# Altium schematic symbol library IC.SchLib: 26 symbols
Pins are listed as number, name and electrical type; pins without a type are passive.

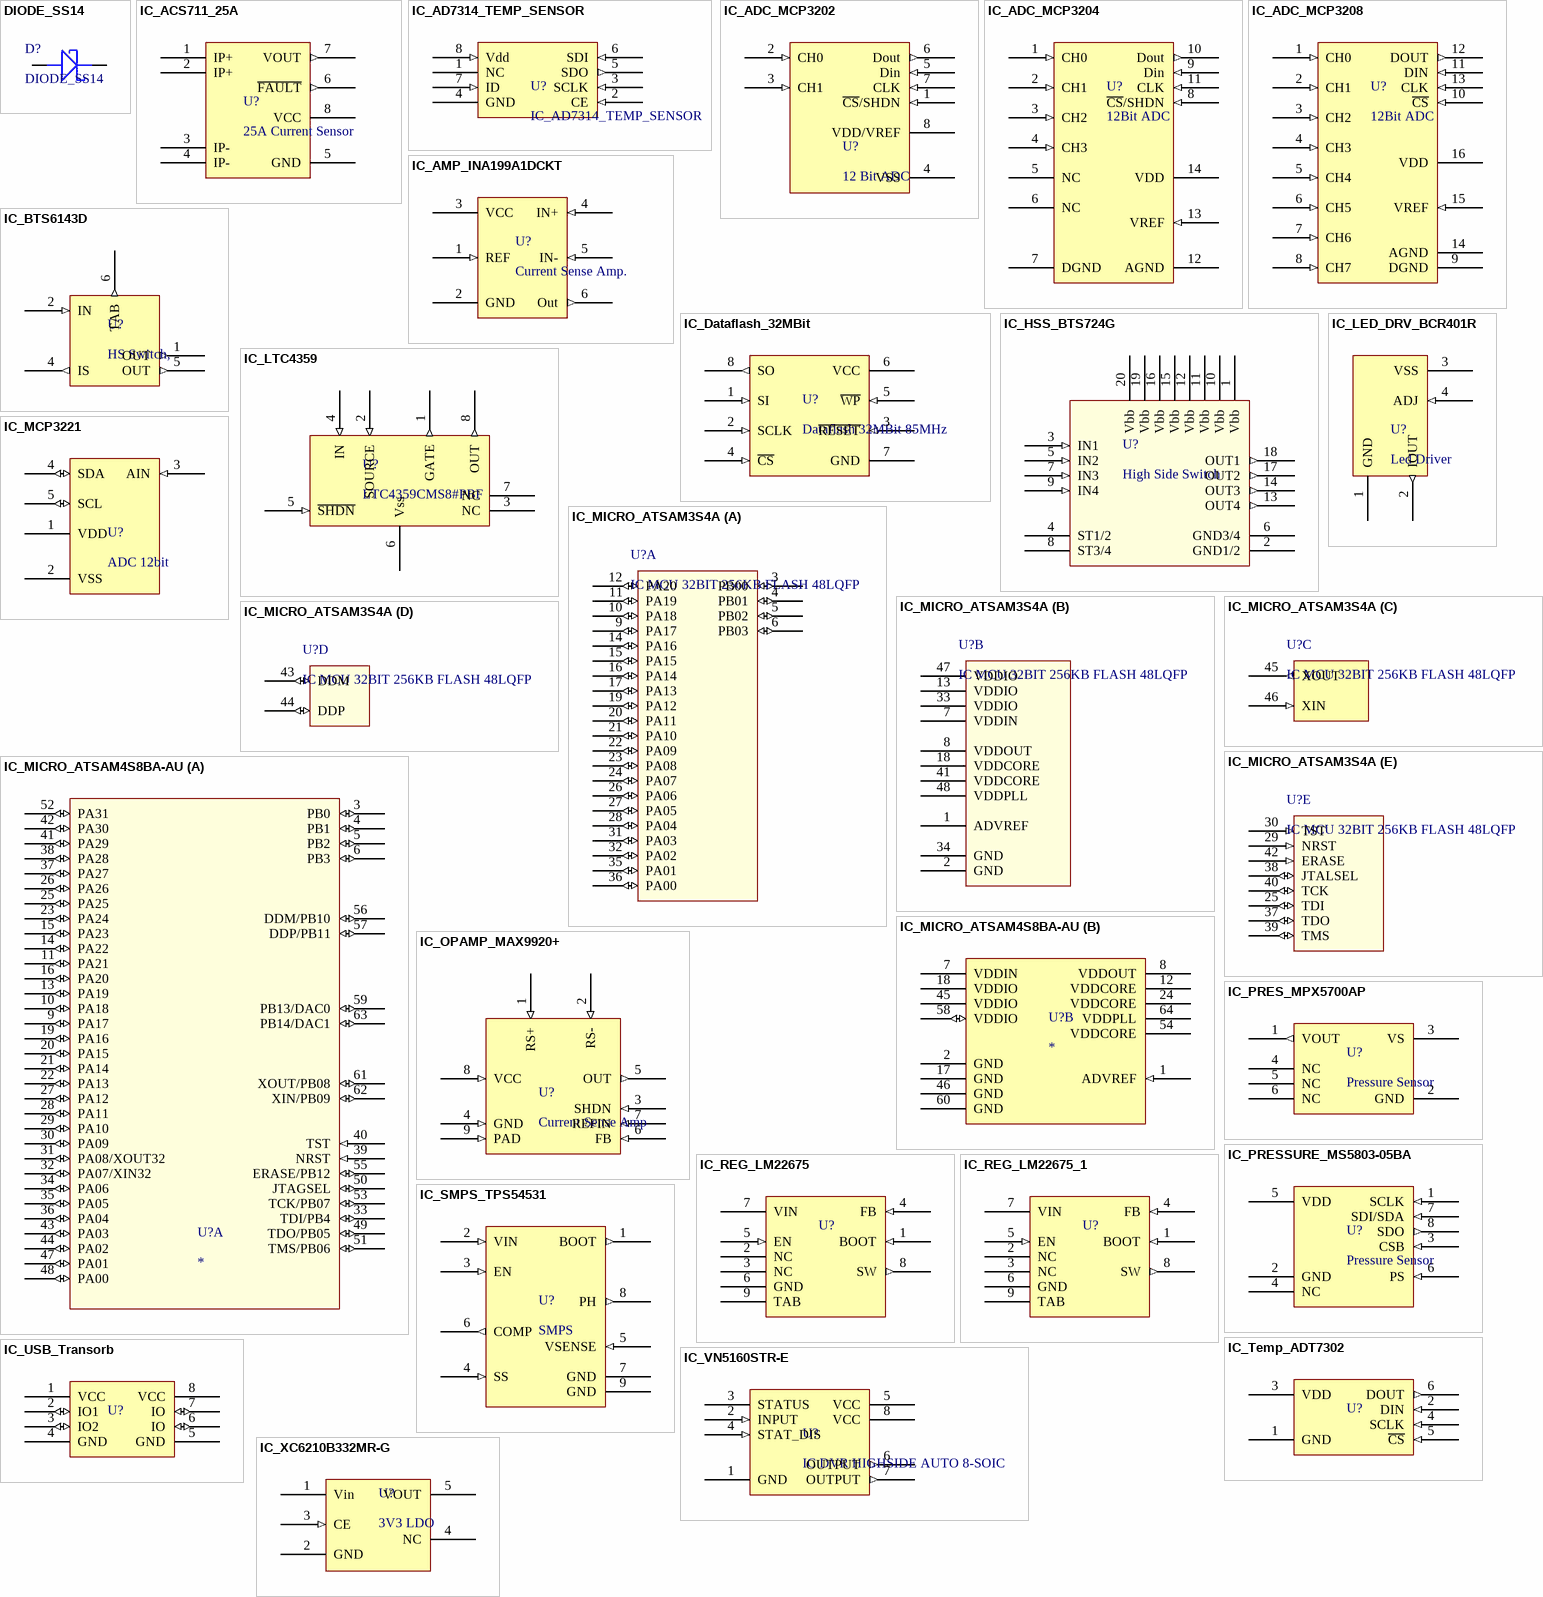
[diagram p0: symbols DIODE_SS14 to IC_XC6210B332MR-G]

## DIODE_SS14
designator D?
Schottky Diode, 1A, 40V SS14; Manufacturer: Fairchild; Manufacturer P/N: SS14
footprint DO-214AC
pins: A, K

## IC_ACS711_25A
designator U?, comment 25A Current Sensor
SENSOR CURRENT HALL 25A AC/DC; Manufacturer: Allegro MicroSystems, LLC; Manufacturer P/N: ACS711ELCTR-25AB-T
footprint SO-8
pins: 1 IP+ (power), 2 IP+ (power), 3 IP- (power), 4 IP- (power), 5 GND (power), 6 ~{FAULT} (out), 7 VOUT (out), 8 VCC (power)

## IC_AD7314_TEMP_SENSOR
designator U?
SENSOR TEMPERATURE SPI 8MSOP; Manufacturer P/N: AD7314ARMZ-REEL7; Manufacturer: Analog Devices Inc
footprint TSOP65P490X110-8M (TSOP, 8-Leads, Body 3.0x3.0mm (max), Pitch 0.65mm, IPC Low Density)
pins: 1 NC (hiz), 2 CE (in), 3 SCLK (in), 4 GND (power), 5 SDO (out), 6 SDI (in), 7 ID (in), 8 Vdd (in)

## IC_ADC_MCP3202
designator U?, comment 12 Bit ADC
MCP3202, 12 Bit, 2 CH ADC; Manufacturer: Microchip; Manufacturer P/N: MCP3202
footprint SO-8
pins: 1 ~{CS}/SHDN (in), 2 CH0 (in), 3 CH1 (in), 4 VSS (power), 5 Din (in), 6 Dout (out), 7 CLK (in), 8 VDD/VREF (power)

## IC_ADC_MCP3204
designator U?, comment 12Bit ADC
IC ADC 12BIT 2.7V 4CH SPI 14SOIC; Manufacturer: Microchip Technology; Manufacturer P/N: MCP3204-BI/SL
footprint SOIC127P600X175-14M (SOIC, 14-Leads, Body 9.9x3.9mm (max), Pitch 1.27mm, IPC Low Density)
pins: 1 CH0 (in), 2 CH1 (in), 3 CH2 (in), 4 CH3 (in), 5 NC (hiz), 6 NC (hiz), 7 DGND (power), 8 ~{CS}/SHDN (in), 9 Din (in), 10 Dout (out), 11 CLK (in), 12 AGND (power), 13 VREF (in), 14 VDD (power)

## IC_ADC_MCP3208
designator U?, comment 12Bit ADC
IC ADC 12BIT 2.7V 8CH SPI 16SOIC; Manufacturer: Microchip Technology; Manufacturer P/N: MCP3208-BI/SL
footprint SOIC127P600X175-16M (Footprint not found)
pins: 1 CH0 (in), 2 CH1 (in), 3 CH2 (in), 4 CH3 (in), 5 CH4 (in), 6 CH5 (in), 7 CH6 (in), 8 CH7 (in), 9 DGND (power), 10 ~{CS} (in), 11 DIN (in), 12 DOUT (out), 13 CLK (in), 14 AGND (power), 15 VREF (in), 16 VDD (power)

## IC_AMP_INA199A1DCKT
designator U?, comment Current Sense Amp.
Current Sense Amp, 50V/V; Manufacturer: ST Micro; Manufacturer P/N: INA199A1DCKT
footprint SOT65P210X110-6M (SOT23, 6-Leads, Body 2.2x2.4mm (max), Pitch 0.65mm, IPC Low Density)
pins: 1 REF (in), 2 GND (power), 3 VCC (power), 4 IN+ (in), 5 IN- (in), 6 Out (out)

## IC_BTS6143D
designator U?, comment HS Switch,
IC SWITCH HISIDE SMART TO252-5; Manufacturer: Infineon; Manufactuer P/N: BTS6143D
footprint TO140P1000X235-5M (Footprint not found)
pins: 1 OUT (out), 2 IN (in), 4 IS (out), 5 OUT (out), 6 TAB (out)

## IC_Dataflash_32MBit
designator U?, comment Dataflash 32MBit 85MHz
IC DATAFLASH 32MB 85MHZ 8SOIC; Manufacturer: Adesto Technologies; Manufacturer P/N: AT45DB321E-SHF-T
footprint SOIC127P800X216-8M (SOIC, 8-Leads, Body 5.4x5.2mm (max), Pitch 1.27mm, IPC Low Density)
pins: 1 SI (in), 2 SCLK (in), 3 ~{RESET} (in), 4 ~{CS} (in), 5 ~{WP} (in), 6 VCC (power), 7 GND (power), 8 SO (out)

## IC_HSS_BTS724G
designator U?, comment High Side Switch
IC HISIDE PWR SWITCH 4CH PDSO-20; Manufacturer: Infineon; Manufacturer P/N: BTS724GXUMA1
footprint SOIC127P1030X265-20M (SOIC, 20-Leads, Body 12.8x7.6mm (max), Pitch 1.27mm, IPC Low Density)
pins: 1 Vbb (power), 2 GND1/2 (power), 3 IN1 (in), 4 ST1/2 (oc), 5 IN2 (in), 6 GND3/4 (power), 7 IN3 (in), 8 ST3/4 (oc), 9 IN4 (in), 10 Vbb (power), 11 Vbb (power), 12 Vbb (power), 13 OUT4 (out), 14 OUT3 (out), 15 Vbb (power), 16 Vbb (power), 17 OUT2 (out), 18 OUT1 (out), 19 Vbb (power), 20 Vbb (power)

## IC_LED_DRV_BCR401R
designator U?, comment Led Driver
20-60mA Led Driver; Manufacturer: Infineon; Manufacturer P/N: BCR401R
footprint SOT192P237X110-4M (SOT143, 4-Leads, Body 3.0x2.6mm (max), Pitch 1.92mm, IPC Low Density)
pins: 1 GND (power), 2 IOUT (out), 3 VSS (power), 4 ADJ (in)

## IC_LTC4359
designator U?, comment LTC4359CMS8#PBF
Ideal Diode Controller; Manufacturer: Linear Technology; Manufacturer P/N: LTC4359CMS8#PBF
footprint TSOP65P490X110-8M (Footprint not found)
pins: 1 GATE (out), 2 SOURCE (in), 3 NC (hiz), 4 IN (in), 5 ~{SHDN} (in), 6 Vss (power), 7 NC (hiz), 8 OUT (out)

## IC_MCP3221
designator U?, comment ADC 12bit
ADC 12Bit MCP3221; Manufacturer: Microchip; Manufacturer P/N: MCP3221A5T-E/OT
footprint SOT95P280X145-5M (SOT23, 5-Leads, Body 3.1x3.0mm (max), Pitch 0.95mm, IPC Low Density)
pins: 1 VDD (power), 2 VSS (power), 3 AIN (in), 4 SDA (io), 5 SCL (io)

## IC_MICRO_ATSAM3S4A
designator U?, comment IC MCU 32BIT 256KB FLASH 48LQFP
Manufacturer: Atmel; Manufacturer P/N: ATSAM3S4AA-AUR
footprint TSQFP50P900X900X160-48M
part A pins: 3 PB00 (io), 4 PB01 (io), 5 PB02 (io), 6 PB03 (io), 9 PA17 (io), 10 PA18 (io), 11 PA19 (io), 12 PA20 (io), 14 PA16 (io), 15 PA15 (io), 16 PA14 (io), 17 PA13 (io), 19 PA12 (io), 20 PA11 (io), 21 PA10 (io), 22 PA09 (io), 23 PA08 (io), 24 PA07 (io), 26 PA06 (io), 27 PA05 (io), 28 PA04 (io), 31 PA03 (io), 32 PA02 (io), 35 PA01 (io), 36 PA00 (io)
part B pins: 1 ADVREF (power), 2 GND (power), 7 VDDIN (power), 8 VDDOUT (power), 13 VDDIO (power), 18 VDDCORE (power), 33 VDDIO (power), 34 GND (power), 41 VDDCORE (power), 47 VDDIO (power), 48 VDDPLL (power)
part C pins: 45 XOUT (out), 46 XIN (in)
part D pins: 43 DDM (io), 44 DDP (io)
part E pins: 25 TDI (io), 29 NRST (in), 30 TST (in), 37 TDO (io), 38 JTALSEL (io), 39 TMS (io), 40 TCK (io), 42 ERASE (in)

## IC_MICRO_ATSAM4S8BA-AU
designator U?
64 Pin, 512KB Flash, 128K SRAM; Manufacturer: Atmel; Manufacturer P/N: ATSAM4S8BA-AU
footprint TSQFP50P1200X1200X160-64M (TSQFP, 64-Leads, Body 12.0x12.0mm (max), Pitch 0.50mm, IPC Low Density)
part A pins: 3 PB0 (io), 4 PB1 (io), 5 PB2 (io), 6 PB3 (io), 9 PA17 (io), 10 PA18 (io), 11 PA21 (io), 13 PA19 (io), 14 PA22 (io), 15 PA23 (io), 16 PA20 (io), 19 PA16 (io), 20 PA15 (io), 21 PA14 (io), 22 PA13 (io), 23 PA24 (io), 25 PA25 (io), 26 PA26 (io), 27 PA12 (io), 28 PA11 (io), 29 PA10 (io), 30 PA09 (io), 31 PA08/XOUT32 (io), 32 PA07/XIN32 (io), 33 TDI/PB4 (io), 34 PA06 (io), 35 PA05 (io), 36 PA04 (io), 37 PA27 (io), 38 PA28 (io), 39 NRST (in), 40 TST (in), 41 PA29 (io), 42 PA30 (io), 43 PA03 (io), 44 PA02 (io), 47 PA01 (io), 48 PA00 (io), 49 TDO/PB05 (io), 50 JTAGSEL (io), 51 TMS/PB06 (io), 52 PA31 (io), 53 TCK/PB07 (io), 55 ERASE/PB12 (io), 56 DDM/PB10 (io), 57 DDP/PB11 (io), 59 PB13/DAC0 (io), 61 XOUT/PB08 (io), 62 XIN/PB09 (io), 63 PB14/DAC1 (io)
part B pins: 1 ADVREF (in), 2 GND (power), 7 VDDIN (power), 8 VDDOUT (power), 12 VDDCORE (power), 17 GND (power), 18 VDDIO (power), 24 VDDCORE (power), 45 VDDIO (power), 46 GND (power), 54 VDDCORE (power), 58 VDDIO (io), 60 GND (power), 64 VDDPLL (power)

## IC_OPAMP_MAX9920+
designator U?, comment Current Sense Amp
IC OPAMP CURR SENSE 230KHZ 8SOIC; Manufacturer: Maxim Intergrated; Manufacturer P/N: MAX9920ASA+
footprint SOIC127P600X168_HS-8M (SOIC, 8-Leads, Body 5.0x4.0mm (max), Pitch 1.27mm, IPC Low Density)
pins: 1 RS+ (in), 2 RS- (in), 3 SHDN (in), 4 GND (in), 5 OUT (out), 6 FB (in), 7 REFIN (in), 8 VCC (in), 9 PAD (in)

## IC_PRES_MPX5700AP
designator U?, comment Pressure Sensor
Pressure Sensor Absolutre 0-700kPa; Manufacturer P/N: MPX5700AP; Manufacturer: FREESCALE SEMICONDUCTOR
pins: 1 VOUT (out), 2 GND (power), 3 VS (power), 4 NC (power), 5 NC (power), 6 NC (power)

## IC_PRESSURE_MS5803-05BA
designator U?, comment Pressure Sensor
MINIATURE ALTIMETER MODULE; Manufacturer: TE Connectivity Measurement Specialties; Manufacturer P/N: MS580305BA01-00
footprint MS5803-05BA
pins: 1 SCLK (in), 2 GND (power), 3 CSB (in), 4 NC (hiz), 5 VDD (power), 6 PS (in), 7 SDI/SDA (in), 8 SDO (out)

## IC_REG_LM22675
designator U?, comment Buck Reg  (value not drawn)
IC REG BUCK 5V 1A 8SOPWRPAD; Manufacturer: Texas Instruments; Manufacturer P/N: LM22675MRE-5.0/NOPB
footprint PSOP-8
pins: 1 BOOT (in), 2 NC (hiz), 3 NC (hiz), 4 FB (in), 5 EN (in), 6 GND (power), 7 VIN (power), 8 SW (out), 9 TAB (power)

## IC_REG_LM22675_1
designator U?, comment Buck Reg  (value not drawn)
IC REG BUCK 5V 1A 8SOPWRPAD; Manufacturer: Texas Instruments; Manufacturer P/N: LM22675MRE-5.0/NOPB
footprint PSOP-8
pins: 1 BOOT (in), 2 NC (hiz), 3 NC (hiz), 4 FB (in), 5 EN (in), 6 GND (power), 7 VIN (power), 8 SW (out), 9 TAB (power)

## IC_SMPS_TPS54531
designator U?, comment SMPS
Manufacturer: TI; Manufacturer P/N: TPS54531DDA
footprint PSOP-8
pins: 1 BOOT (out), 2 VIN (in), 3 EN (in), 4 SS (in), 5 VSENSE (in), 6 COMP (out), 7 GND (power), 8 PH (out), 9 GND (power)

## IC_Temp_ADT7302
designator U?, comment SPI Temp Sensor  (value not drawn)
SENSOR TEMPERATURE SPI SOT23-6; Manufacturer: Analog Devices Inc; Manufacturer P/N: ADT7302ARTZ-REEL7
footprint SOT95P280X130-6M (Footprint not found)
pins: 1 GND (power), 2 DIN (in), 3 VDD (power), 4 SCLK (in), 5 ~{CS} (in), 6 DOUT (out)

## IC_USB_Transorb
designator U?  (value not drawn)
TVS DIODE 5.25VWM 8SOIC; Manufacturer: STMicroelectronics; Manufacturer P/N: USB6B1RL
footprint SO-8
pins: 1 VCC (power), 2 IO1 (io), 3 IO2 (io), 4 GND (power), 5 GND (power), 6 IO (io), 7 IO (io), 8 VCC (power)

## IC_VN5160STR-E
designator U?, comment IC DVR HIGHSIDE AUTO 8-SOIC
3.8A High Side Driver; Manufacturer: STMicroelectronics; Manufacturer P/N: VN5160STR-E
footprint SO-8
pins: 1 GND (power), 2 INPUT (in), 3 STATUS (oc), 4 STAT_DIS (in), 5 VCC (power), 6 OUTPUT (out), 7 OUTPUT (out), 8 VCC (power)

## IC_XC6210B332MR-G
designator U?, comment 3V3 LDO
IC REG LDO 3.3V 0.7A SOT25; Manufacturer: Torex Semiconductor Ltd; Manufacturer P/N: XC6210B332MR-G
footprint SOT-25-A
pins: 1 Vin (power), 2 GND (power), 3 CE (in), 4 NC (hiz), 5 VOUT (power)

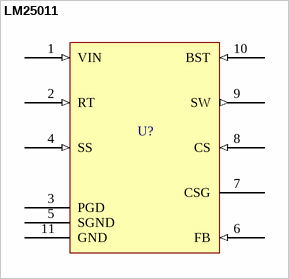
[diagram p1: symbol LM25011]

## LM25011
designator U?, comment IC REG BUCK ADJ 2A 10MSOP  (value not drawn)
Manufacturer: TI; Manufacturer P/N: LM25011MY/NOPB
footprint TSSOP50P490X86_HS-10M (Footprint not found)
pins: 1 VIN (in), 2 RT (in), 3 PGD (hiz), 4 SS (in), 5 SGND (power), 6 FB (in), 7 CSG (power), 8 CS (in), 9 SW (out), 10 BST (in), 11 GND (power)